# Altium footprint library RFM98W.PcbLib: 1 footprints
Each footprint in its own frame and in the unit in brackets; x right, y up, seen from the top. Pads: shape width x height; smd on the part's side, far side on the other; paste and mask are expansions set on the pad; w line width, h text height; cw(c..) or ccw(c..) is an arc to the next point about the centre after c.
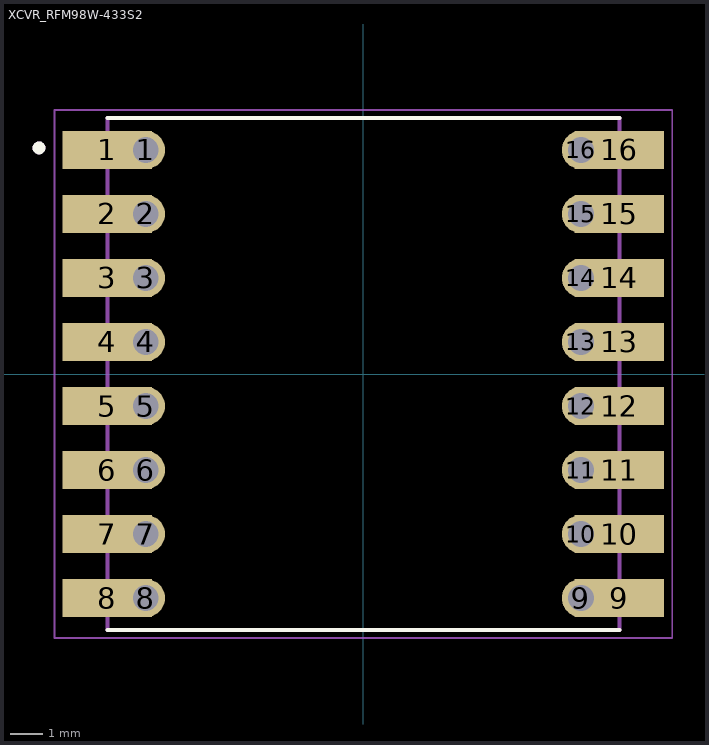
[diagram p0: the footprint, top view; thin cyan lines are the x and y axes]

## XCVR_RFM98W-433S2 [mm]
pads (32):
  rect 2.8x1.2 smd: 1(-8,7) 2(-8,5) 3(-8,3) 4(-8,1) 5(-8,-1) 6(-8,-3) 7(-8,-5) 8(-8,-7) 9(8,-7) 10(8,-5) 11(8,-3) 12(8,-1) 13(8,1) 14(8,3) 15(8,5) 16(8,7)
  round 1.2 hole 0.8: 1(-6.8,7) 2(-6.8,5) 3(-6.8,3) 4(-6.8,1) 5(-6.8,-1) 6(-6.8,-3) 7(-6.8,-5) 8(-6.8,-7) 9(6.8,-7) 10(6.8,-5) 11(6.8,-3) 12(6.8,-1) 13(6.8,1) 14(6.8,3) 15(6.8,5) 16(6.8,7)
Top Overlay:
  circle w0.2: c-10.135,7.065 r0.1
  lines w0.127: -8,-8 8,-8 ; -8,8 8,8
Mechanical 13:
  circle w0.2: c-10.135,7.065 r0.1
  lines w0.127: -8,-8 8,-8 8,8 -8,8 -8,-8
Mechanical 15:
  lines w0.05: -9.65,-8.25 9.65,-8.25 9.65,8.25 -9.65,8.25 -9.65,-8.25
3D body "RFM98W-433S2.step": height 1.8, standoff 0, extent -7.95,-7.848 8.05,8.151